# Altium schematic symbol library Transistors.SchLib: 4 symbols
Pins are listed as number, name and electrical type; pins without a type are passive.

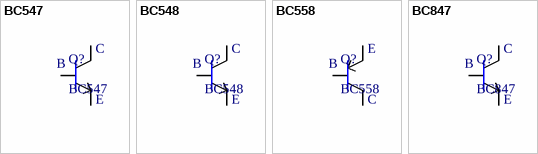
[diagram p0: symbols BC547 to BC847]

## BC547
designator Q?
BC547 NPN Transistor THT TO-92 Package; Package Type: THT; Type: NPN Transistor; Package: TO-92; Group: *
footprint TO-92 wide (TO-92 THT package wide legs)
footprint TO-92 narrow (TO-92 THT package narrow legs)
pins: 1, 2, 3
text: C; B; E

## BC548
designator Q?
BC548 NPN Transistor THT TO-92 Package; Package Type: THT; Type: NPN Transistor; Package: TO-92; Group: *
footprint TO-92 wide (TO-92 THT package wide legs)
footprint TO-92 narrow (TO-92 THT package narrow legs)
pins: 1, 2, 3
text: C; B; E

## BC558
designator Q?
BC558 PNP Transistor THT TO-92 Package; Package Type: THT; Type: PNP Transistor; Package: TO-92; Group: *
footprint TO-92 wide (TO-92 THT package wide legs)
footprint TO-92 narrow (TO-92 THT package narrow legs)
pins: 1, 2, 3
text: E; B; C

## BC847
designator Q?
BC847 NPN Transistor SMD SOT-23-3 Package; Package Type: SMD; Type: NPN Transistor; Package: SOT-23-3; Group: *
footprint SOT-23-3 (SOT-23 SMD package 3 pin)
pins: 1, 2, 3
text: C; B; E